# Altium schematic symbol library header_5_tp1_sct.SchLib: 1 symbol
Pins are listed as number, name and electrical type; pins without a type are passive.

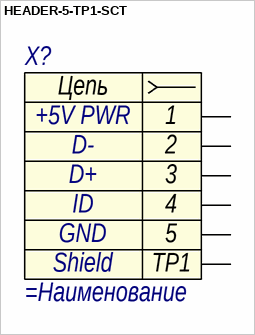
[diagram p0: symbol HEADER-5-TP1-SCT]

## HEADER-5-TP1-SCT
designator X?
=Описание; Contact_1: +5V PWR; Contact_2: D-; Contact_3: D+; Contact_4: ID; Contact_5: GND; TP1: Shield
pins: 1, 2, 3, 4, 5, TP1
text: Цепь